# Altium footprint library CJS-1200TA.PcbLib: 1 footprints
Each footprint in its own frame and in the unit in brackets; x right, y up, seen from the top. Pads: shape width x height; smd on the part's side, far side on the other; paste and mask are expansions set on the pad; w line width, h text height; cw(c..) or ccw(c..) is an arc to the next point about the centre after c.
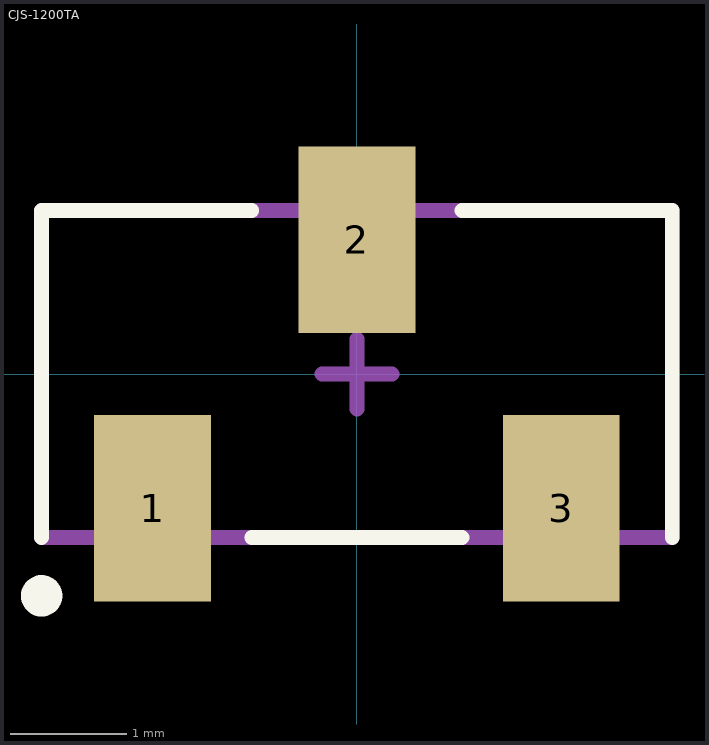
[diagram p0: the footprint, top view; thin cyan lines are the x and y axes]

## CJS-1200TA [mm]
height 2.5
pads (3):
  rect 1x1.6 smd mask+0.06: 1(-1.75,-1.15) 2(0,1.15) 3(1.75,-1.15)
Top Overlay:
  circle w0.254: c-2.7,-1.9 r0.05
  lines w0.127: -2.7,-1.4 -2.7,1.4 -0.9,1.4 ; -0.9,-1.4 0.9,-1.4 ; 0.9,1.4 2.7,1.4 2.7,-1.4
Top Designator:
  text ".Designator" at -7.674,-0.541 h1.52
3D Body:
  lines w0.127: -2.7,-1.4 -2.7,1.4 2.7,1.4 2.7,-1.4 -2.7,-1.4
Center Cross:
  lines w0.127: -0.3,0 0,0 ; 0,-0.3 0,0 ; 0,0.3 0,0 ; 0.3,0 0,0
3D body "CJS-1200A1.stp": height 2.52, standoff 0, extent -2.7,-1.4 2.7,1.4